# Altium footprint library lm1875.PcbLib: 18 footprints (part 2 of 2)
Each footprint in its own frame and in the unit in brackets; x right, y up, seen from the top. Pads: shape width x height; smd on the part's side, far side on the other; paste and mask are expansions set on the pad; w line width, h text height; cw(c..) or ccw(c..) is an arc to the next point about the centre after c.
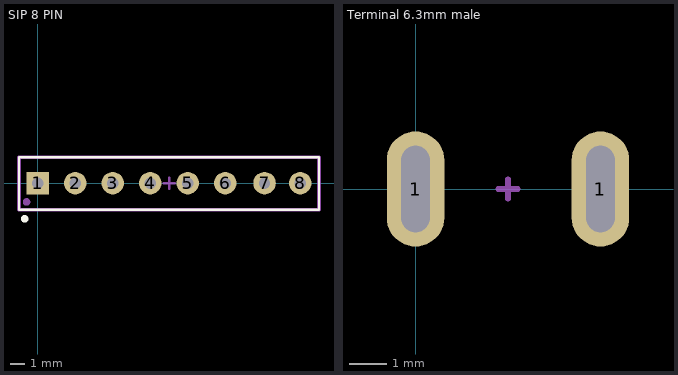
[diagram p1: the footprints below, top view; thin cyan lines are the x and y axes]

## SIP 8 PIN [mil]
pads (8):
  rect 60x60 hole 30: 1(0,0)
  round 60 hole 30: 2(100,0) 3(200,0) 4(300,0) 5(400,0) 6(500,0) 7(604.72,0) 8(700,0)
Top Overlay:
  circle w10: c-35,-95 r5
  lines w5.91: -50,-70.87 750,-70.87 750,68.9 -50,68.9 -50,-70.87
Top Assembly:
  circle w10: c-30,-50 r5
  lines w10: -50,-70.87 -50,68.9 750,68.9 750,-70.87 -50,-70.87
Top Courtyard:
  lines w10: -50,-70.87 -50,68.9 750,68.9 750,-70.87 -50,-70.87
Top Component Center:
  lines w5.91: 335.79,0 365.79,0 ; 350.79,-15 350.79,15
3D body: height 0, standoff -125.98, extent 690,-10 710,10
3D body: height 0, standoff -125.98, extent 594.72,-10 614.72,10
3D body: height 0, standoff -125.98, extent 490,-10 510,10
3D body: height 0, standoff -125.98, extent 390,-10 410,10
3D body: height 0, standoff -125.98, extent 290,-10 310,10
3D body: height 0, standoff -125.98, extent 190,-10 210,10
3D body: height 0, standoff -125.98, extent 90,-10 110,10
3D body: height 0, standoff -125.98, extent -10,-10 10,10
3D body: height 20.08, standoff 0, extent 670,-10 730,10
3D body: height 20.08, standoff 0, extent 574.72,-10 634.72,10
3D body: height 20.08, standoff 0, extent 470,-10 530,10
3D body: height 20.08, standoff 0, extent 370,-10 430,10
3D body: height 20.08, standoff 0, extent 270,-10 330,10
3D body: height 20.08, standoff 0, extent 170,-10 230,10
3D body: height 20.08, standoff 0, extent 70,-10 130,10
3D body: height 20.08, standoff 0, extent -30,-10 30,10
3D body: height 220.08, standoff 20.08, extent -49.21,-70 750.79,70

## Terminal 6.3mm male [mil]
pads (2):
  oval 60x120 hole 30 slot 90 at 90 deg: 1(0,0) 1(192.91,0)
Top Component Center:
  lines w5.91: 86.46,0 106.46,0 ; 96.46,-10 96.46,10